# EAGLE library part 691321300015 (library Wurth_Elektronik_Electromechanic_Terminal_Blocks_Connectors_rev15c)
WR-TBL Serie 321 - 3.81mm Vertical PCB Header , 15 pins=>Code : Con_TBL_Pluggable_3.81_PCB_THT_Simple_691321300015 <http://katalog.we-online.de/media/images/eican/Con_TBL_Pluggable_3.81_PCB_THT_Simple_6913213000xx_pf2.jpg> Details see: http://katalog.we-online.de/en/em/691_321_300_0xx Created 2014-06-19, Karrer Zheng 2014 (C) Würth Elektronik
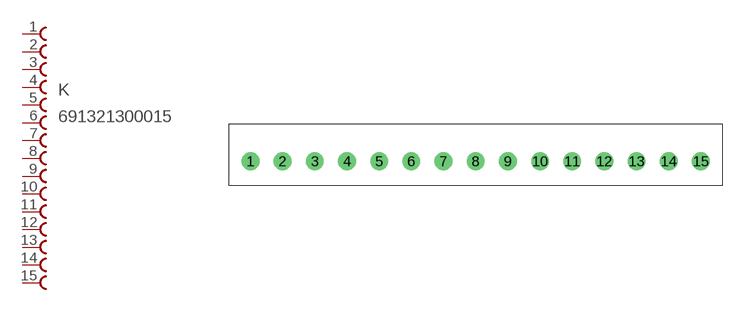
[diagram p26: symbol with the pads of 691321300015; footprint 691321300015]

Designator prefix K

## 691321300015  [691321300015]
1  1  pas
2  2  pas
3  3  pas
4  4  pas
5  5  pas
6  6  pas
7  7  pas
8  8  pas
9  9  pas
10  10  pas
11  11  pas
12  12  pas
13  13  pas
14  14  pas
15  15  pas

## Footprint 691321300015 (pad centres in mm)
WR-TBL Serie 321 - 3.81mm Vertical PCB Header , 15 Pins
drill 1.4: 1 -30.48,0; 2 -26.67,0; 3 -22.86,0; 4 -19.05,0; 5 -15.24,0; 6 -11.43,0; 7 -7.62,0; 8 -3.81,0; 9 0,0; 10 3.81,0; 11 7.62,0; 12 11.43,0; 13 15.24,0; 14 19.05,0; 15 22.86,0